# Altium integrated library EE20.IntLib: 1 symbol
Pins are listed as number, name and electrical type; pins without a type are passive.

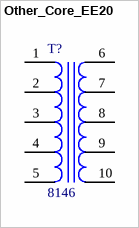
[diagram p0: symbol Other_Core_EE20]

## Other_Core_EE20
designator T?, comment Inflow: 8146  (hidden comment: EE20/10/6/H)
Ferrite Core; Rating: Rating?; Type: Type?; Value: EE20/10/6/H; Package: Package?
footprint EE20
pins: 1 (power), 2 (power), 3 (power), 4 (power), 5 (power), 6 (power), 7 (power), 8 (power), 9 (power), 10 (power)